# Altium footprint library Class.PcbLib: 36 footprints (part 2 of 3)
Each footprint in its own frame and in the unit in brackets; x right, y up, seen from the top. Pads: shape width x height; smd on the part's side, far side on the other; paste and mask are expansions set on the pad; w line width, h text height; cw(c..) or ccw(c..) is an arc to the next point about the centre after c.
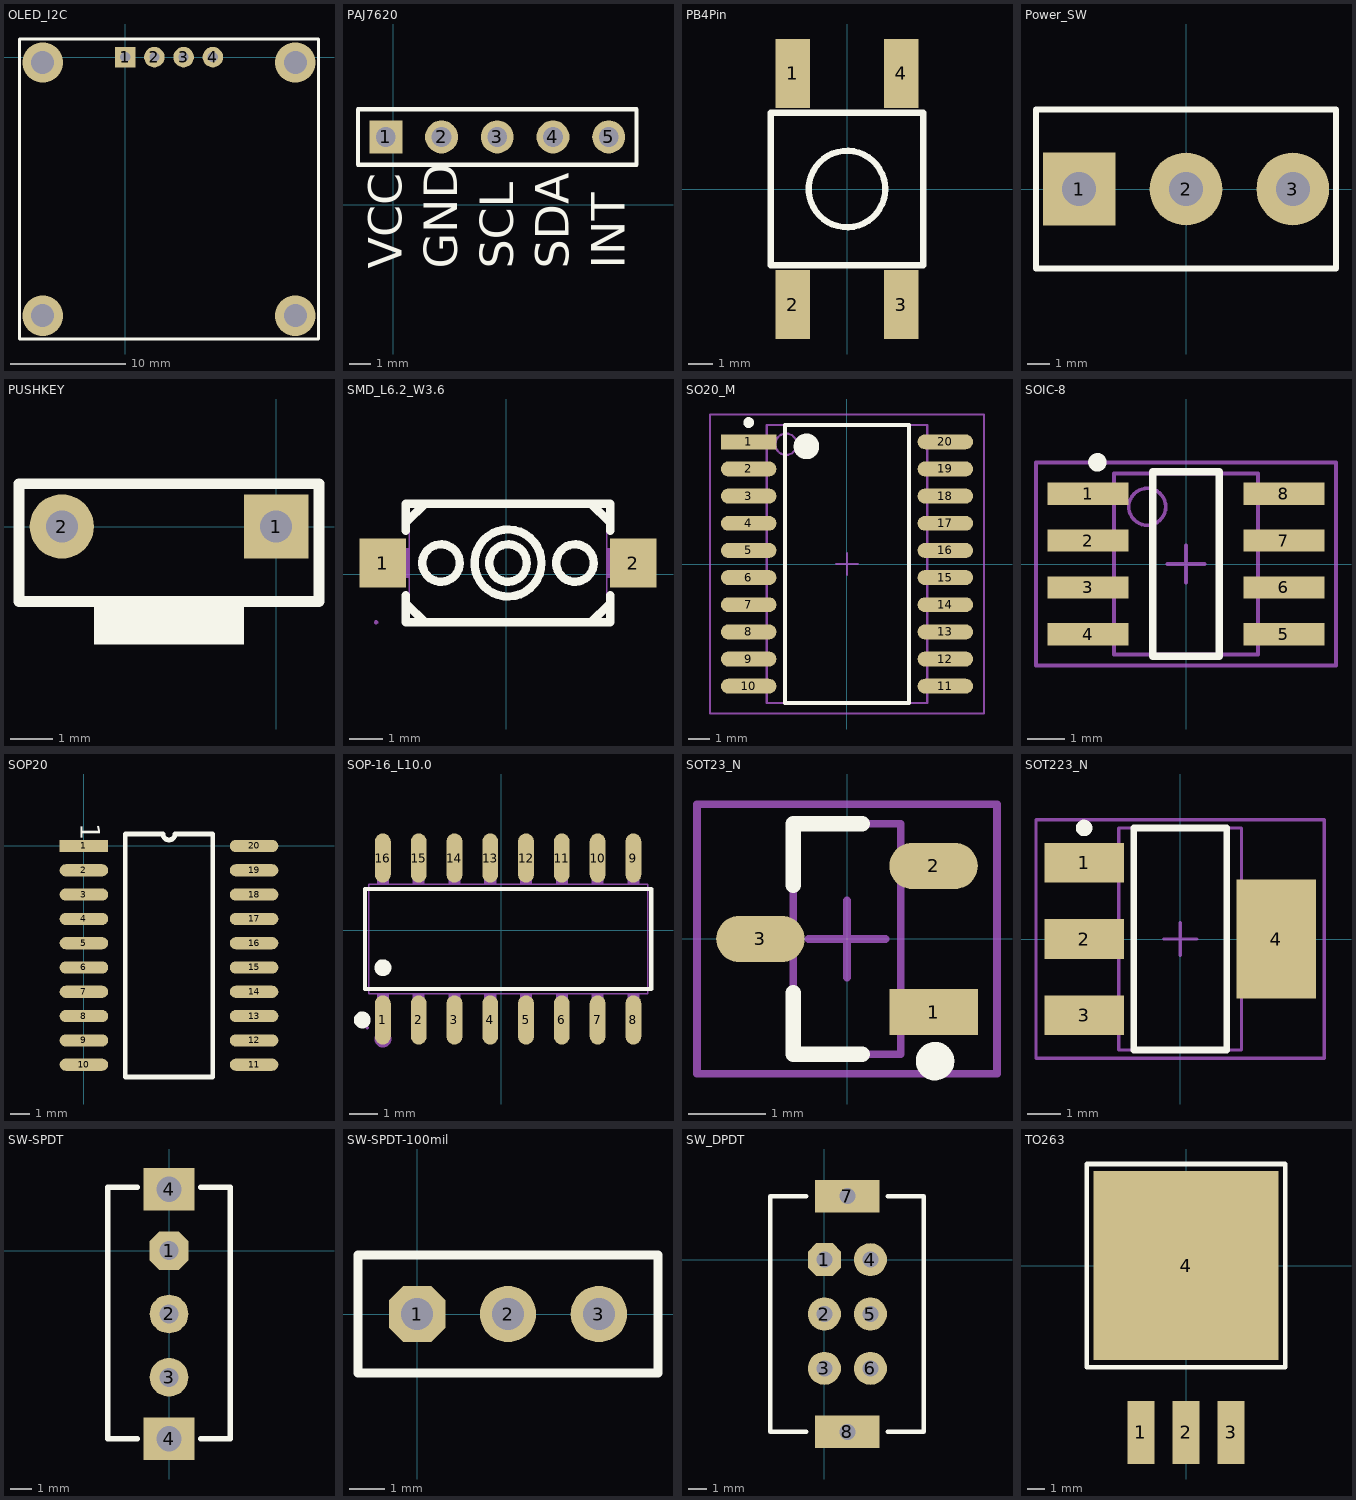
[diagram p1: the footprints below, top view; thin cyan lines are the x and y axes]

## OLED_I2C [mil]
height 6
pads (4):
  rect 70x70 hole 35: 1(0,0)
  round 70 hole 35: 2(100,0) 3(200,0) 4(300,0)
via -281.89,-884.25 diameter 137.8 hole 78.74
via 581.89,-884.25 diameter 137.8 hole 78.74
via 581.89,-18.11 diameter 137.8 hole 78.74
via -281.89,-18.11 diameter 137.8 hole 78.74
Top Overlay:
  lines w10: -362,-964 -362,62 662,62 662,-964 -362,-964

## PAJ7620 [mm]
pads (5):
  rect 1.5x1.5 hole 0.9: 1(-0.344,3.094)
  round 1.5 hole 0.9: 2(2.196,3.094) 3(4.736,3.094) 4(7.276,3.094) 5(9.816,3.094)
Top Overlay:
  lines w0.2: -1.614,1.824 -1.614,4.364 11.086,4.364 11.086,1.824 -1.614,1.824
  text "VCC" at 0.381,-2.921 h1.52
  text "GND" at 2.921,-2.921 h1.52
  text "SCL" at 5.461,-2.921 h1.52
  text "SDA" at 8.001,-2.921 h1.52
  text "INT" at 10.541,-2.921 h1.52

## PB4Pin [mm]
pads (4):
  rect 1.4x2.8 smd: 1(-2.2,4.7) 2(-2.2,-4.7) 3(2.2,-4.7) 4(2.2,4.7)
Top Overlay:
  circle w0.254: c0,0 r1.556
  lines w0.254: -3.1,-3.1 -3.1,3.1 3.1,3.1 3.1,-3.1 -3.1,-3.1

## Power_SW [mm]
height 6.3
pads (3):
  rect 3.2x3.2 hole 1.5: 1(-4.7,0)
  round 3.2 hole 1.5: 2(0,0) 3(4.7,0)
Top Overlay:
  lines w0.254: -6.6,-3.5 6.6,-3.5 6.6,3.5 -6.6,3.5 -6.6,-3.5

## PUSHKEY [mil]
height 3.6
pads (2):
  rect 60x60 hole 30: 1(0,0)
  round 60 hole 30: 2(-200,0)
Top Overlay:
  rectangle: -170,-110 -30,-70
  lines w10: -240,-70 40,-70 40,40 -240,40 -240,-70

## SMD_L6.2_W3.6 [mm]
pads (2):
  rect 1.4x1.5 smd mask+0.051: 1(-3.745,0.336) 2(3.855,0.336)
Top Overlay:
  circle w0.254: c0.055,0.336 r0.568
  circle w0.254: c0.055,0.336 r1.016
  circle w0.254: c2.087,0.336 r0.568
  circle w0.254: c-1.977,0.336 r0.568
  lines w0.254: -3.045,-0.645 -3.045,-1.464 3.155,-1.464 3.155,-0.645 ; -3.045,1.317 -3.045,2.136 3.155,2.136 3.155,1.317 ; -2.993,-0.934 -2.485,-1.442 ; -2.993,1.606 -2.485,2.114 ; 2.595,-1.442 3.103,-0.934 ; 2.595,2.114 3.103,1.606
Mechanical 15:
  region: -3.885,-1.464 -3.885,-1.439 -3.92,-1.404 -3.97,-1.404 -4.005,-1.439 -4.005,-1.464 -4.005,-1.489 -3.97,-1.524 -3.92,-1.524 -3.885,-1.489
  region: 3.045,-0.114 3.045,0.786 3.365,0.786 3.365,-0.114
  region: 3.355,-0.114 3.355,0.786 4.055,0.786 4.055,-0.114
  region: -3.245,0.786 -3.245,-0.114 -3.945,-0.114 -3.945,0.786
  region: -2.935,0.786 -2.935,-0.114 -3.255,-0.114 -3.255,0.786
  lines w0.051: -2.945,-1.464 -2.945,2.136 3.055,2.136 3.055,-1.464 -2.945,-1.464

## SO20_M [mm] "SOIC, 20-Leads, Body 12.8x7.5mm, Pitch 1.27mm, IPC Low Density"
height 2.65
pads (20):
  rect 2.6x0.7 smd: 1(-4.6,5.715)
  oval 2.6x0.7 smd: 2(-4.6,4.445) 3(-4.6,3.175) 4(-4.6,1.905) 5(-4.6,0.635) 6(-4.6,-0.635) 7(-4.6,-1.905) 8(-4.6,-3.175) 9(-4.6,-4.445) 10(-4.6,-5.715) 11(4.6,-5.715) 12(4.6,-4.445) 13(4.6,-3.175) 14(4.6,-1.905) 15(4.6,-0.635) 16(4.6,0.635) 17(4.6,1.905) 18(4.6,3.175) 19(4.6,4.445) 20(4.6,5.715)
Top Overlay:
  circle w0.6: c-1.9,5.5 r0.3
  circle w0.25: c-4.6,6.615 r0.125
  lines w0.2: -2.9,-6.5 2.9,-6.5 2.9,6.5 -2.9,6.5 -2.9,-6.5
Mechanical 13:
  circle w0.1: c-2.85,5.6 r0.5
  lines w0.1: -3.75,-6.5 3.75,-6.5 3.75,6.5 -3.75,6.5 -3.75,-6.5
Mechanical 15:
  lines w0.1: -0.5,0 0.5,0 ; 0,-0.5 0,0.5 ; -6.4,-7 6.4,-7 6.4,7 -6.4,7 -6.4,-7
3D body: height 2.65, standoff 0, extent -3.75,-6.5 3.75,6.5

## SOIC-8 [mm]
height 1.75
pads (8):
  rect 2.2x0.6 smd: 1(-2.654,1.905) 2(-2.654,0.635) 3(-2.654,-0.635) 4(-2.654,-1.905) 5(2.654,-1.905) 6(2.654,-0.635) 7(2.654,0.635) 8(2.654,1.905)
Top Overlay:
  circle w0.25: c-2.4,2.755 r0.125
  lines w0.2: -0.9,-2.5 0.9,-2.5 0.9,2.5 -0.9,2.5 -0.9,-2.5
Mechanical 13:
  circle w0.1: c-1.05,1.55 r0.5
  lines w0.1: -1.95,-2.45 1.95,-2.45 1.95,2.45 -1.95,2.45 -1.95,-2.45
Mechanical 15:
  lines w0.1: -0.5,0 0.5,0 ; 0,-0.5 0,0.5 ; -4.064,-2.75 4.064,-2.75 4.064,2.75 -4.064,2.75 -4.064,-2.75
3D body "SO-8.STEP": height 1.7, standoff 0, extent -3,-2.45 3,2.45

## SOP20 [mm]
pads (20):
  rect 2.54x0.635 smd: 1(0,0)
  oval 2.54x0.635 smd: 2(0,-1.27) 3(0,-2.54) 4(0,-3.81) 5(0,-5.08) 6(0,-6.35) 7(0,-7.62) 8(0,-8.89) 9(0,-10.16) 10(0,-11.43) 11(8.89,-11.43) 12(8.89,-10.16) 13(8.89,-8.89) 14(8.89,-7.62) 15(8.89,-6.35) 16(8.89,-5.08) 17(8.89,-3.81) 18(8.89,-2.54) 19(8.89,-1.27) 20(8.89,0)
Top Overlay:
  lines w0.254: 2.159,-12.065 2.159,0.635 4.127,0.635 ccw(c4.445,0.635) 4.763,0.635 6.731,0.635 6.731,-12.065 2.159,-12.065
  text "1" at -0.5,1.2 h1.78

## SOP-16_L10.0 [mm]
pads (16):
  oval 0.56x1.745 smd mask+0.051: 1(-4.198,-3.191) 2(-2.928,-3.191) 3(-1.658,-3.191) 4(-0.388,-3.191) 5(0.882,-3.191) 6(2.152,-3.191) 7(3.422,-3.191) 8(4.692,-3.191) 9(4.692,2.553) 10(3.422,2.553) 11(2.152,2.553) 12(0.882,2.553) 13(-0.388,2.553) 14(-1.658,2.553) 15(-2.928,2.553) 16(-4.198,2.553)
Top Overlay:
  circle w0.3: c-4.198,-1.338 r0.15
  circle w0.3: c-4.93,-3.191 r0.15
  lines w0.152: -4.829,-2.09 -4.829,1.452 5.324,1.452 5.324,-2.09 -4.829,-2.09
Mechanical 6:
  circle w0.3: c-4.198,-3.869 r0.15
Mechanical 15:
  drawing of 37 lines, arcs and shapes, not listed

## SOT23_N [mm] "SOT23, 3-Leads, Body 2.9x1.3mm, Pitch 0.95mm, Lead Span 2.3mm - Reverse Pinning, IPC Medium Density"
height 1.1
pads (3):
  rect 1.15x0.6 smd: 1(1.125,-0.95)
  oval 1.15x0.6 smd: 2(1.125,0.95) 3(-1.125,0)
Top Overlay:
  circle w0.25: c1.145,-1.587 r0.125
  lines w0.2: -0.7,-0.7 -0.7,-1.5 0.2,-1.5 ; -0.7,0.7 -0.7,1.5 0.2,1.5
Mechanical 13:
  lines w0.1: -0.7,-1.5 0.7,-1.5 0.7,1.5 -0.7,1.5 -0.7,-1.5
Mechanical 15:
  lines w0.1: -0.5,0 0.5,0 ; 0,-0.5 0,0.5 ; -1.95,-1.75 1.95,-1.75 1.95,1.75 -1.95,1.75 -1.95,-1.75
3D body: height 1.1, standoff 0, extent -0.7,-1.5 0.7,1.5

## SOT223_N [mm] "SOT223, 4-Leads, Body 6.5x3.5mm, Pitch 2.3mm, Lead Span 7mm, IPC Medium Density"
height 1.7
pads (4):
  rect 2.4x1.2 smd: 1(-2.9,2.3) 2(-2.9,0) 3(-2.9,-2.3)
  rect 2.4x3.6 smd: 4(2.9,0)
Top Overlay:
  circle w0.25: c-2.9,3.35 r0.125
  lines w0.2: -1.4,-3.35 -1.4,3.35 1.4,3.35 1.4,-3.35 -1.4,-3.35
Mechanical 13:
  lines w0.1: -1.85,-3.35 -1.85,3.35 1.85,3.35 1.85,-3.35 -1.85,-3.35
Mechanical 15:
  lines w0.1: -0.5,0 0.5,0 ; 0,-0.5 0,0.5 ; -4.35,-3.6 -4.35,3.6 4.35,3.6 4.35,-3.6 -4.35,-3.6
3D body: height 1.7, standoff 0, extent -1.85,-3.35 1.85,3.35

## SW-SPDT [mm] "SW?"
height 2.54
pads (5):
  oct 1.829x1.829 hole 0.889: 1(0,0)
  round 1.829 hole 0.889: 2(0,-3) 3(0,-6)
  rect 2.4x2 hole 1.2 square: 4(0,-8.9) 4(0,2.9)
Top Overlay:
  lines w0.254: -1.5,-8.9 -2.9,-8.9 -2.9,3 -1.5,3 ; 1.5,-8.9 2.9,-8.9 2.9,3 1.5,3

## SW-SPDT-100mil [mil]
pads (3):
  oct 62x62 hole 35: 1(0,0)
  round 62 hole 35: 2(100,0) 3(200,0)
Top Overlay:
  lines w10: -65,-65 265,-65 265,65 -65,65 -65,-65

## SW_DPDT [mil]
pads (8):
  oct 72x72 hole 35: 1(0,0)
  round 72 hole 35: 2(0,-118.11) 3(0,-236.22) 4(100,0) 5(100,-118.11) 6(100,-236.22)
  rect 140x70 hole 35 square: 7(50,138.11) 8(50,-374.33)
Top Overlay:
  lines w10: -39.37,-374.33 -118.11,-374.33 -118.11,138.11 -39.37,138.11 ; 137.8,-374.33 216.53,-374.33 ; 137.8,138.11 216.54,138.11 216.54,-374.33 ; 216.53,-374.33 216.54,-374.33

## TO263 [mil]
height 170
pads (4):
  rect 60x140 smd: 1(-100,-370) 2(0,-370) 3(100,-370)
  rect 410x420 smd: 4(0,0)
Top Overlay:
  lines w10: -220,-225 220,-225 220,225 -220,225 -220,-225